# Altium schematic symbol library l298n_mini.SchLib: 1 symbol
Pins are listed as number, name and electrical type; pins without a type are passive.

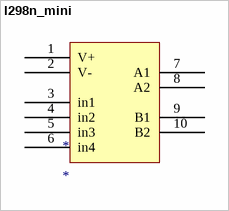
[diagram p0: symbol l298n_mini]

## l298n_mini
designator *
footprint l298n_mini
pins: 1 V+, 2 V-, 3 in1, 4 in2, 5 in3, 6 in4, 7 A1, 8 A2, 9 B1, 10 B2